# Altium footprint library OpAmps$.PcbLib: 6 footprints
Each footprint in its own frame and in the unit in brackets; x right, y up, seen from the top. Pads: shape width x height; smd on the part's side, far side on the other; paste and mask are expansions set on the pad; w line width, h text height; cw(c..) or ccw(c..) is an arc to the next point about the centre after c.
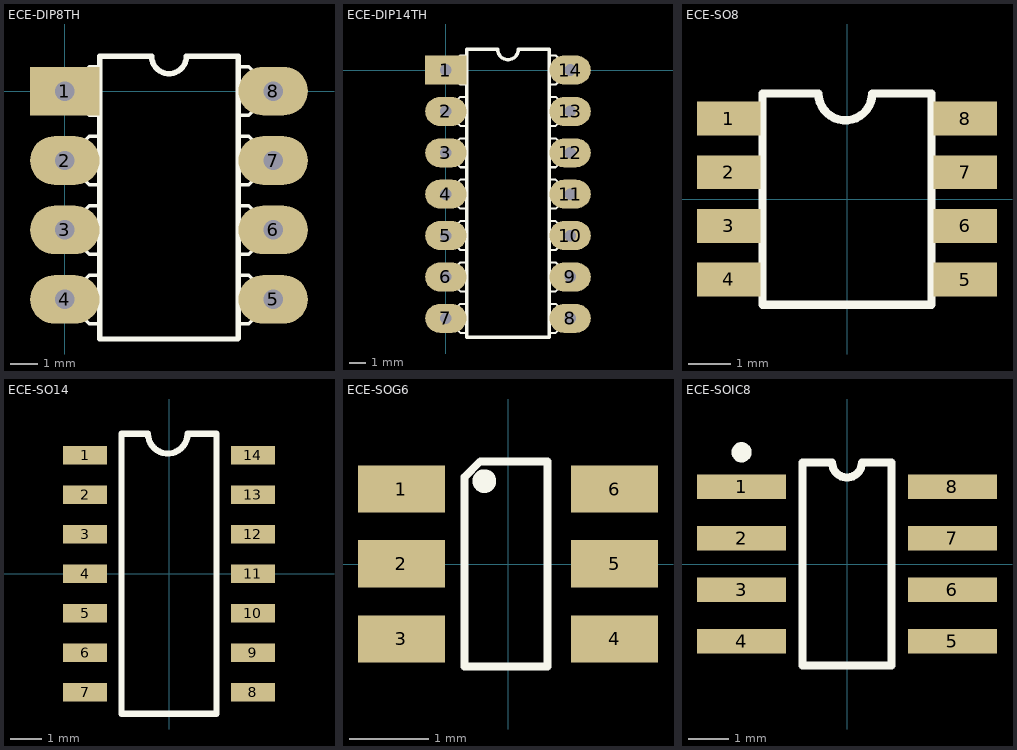
[diagram p0: the footprints below, top view; thin cyan lines are the x and y axes]

## ECE-DIP8TH [mil] "8 pin Dual in line"
pads (8):
  rect 100x70 hole 28: 1(0,0)
  oval 100x70 hole 28: 2(0,-100) 3(0,-200) 4(0,-300) 5(300,-300) 6(300,-200) 7(300,-100) 8(300,0)
Top Overlay:
  lines w5: 50,-335 35,-335 15,-315 0,-315 0,-285 15,-285 35,-265 50,-265 ; 50,-235 35,-235 15,-215 0,-215 0,-185 15,-185 35,-165 50,-165 ; 50,-135 35,-135 15,-115 0,-115 0,-85 15,-85 35,-65 50,-65 ; 50,-35 35,-35 15,-15 0,-15 0,15 15,15 35,35 50,35 ; 250,-335 265,-335 285,-315 300,-315 300,-285 285,-285 265,-265 250,-265 ; 250,-235 265,-235 285,-215 300,-215 300,-185 285,-185 265,-165 250,-165 ; 250,-135 265,-135 285,-115 300,-115 300,-85 285,-85 265,-65 250,-65 ; 250,-35 265,-35 285,-15 300,-15 300,15 285,15 265,35 250,35
  lines w7.87: 50,50 50,-357.09 249.21,-357.09 ; 250,-356.3 250,50
  lines w8: 50,50 125,50 ccw(c150,50) 175,50 250,50

## ECE-DIP14TH [mil] "14 pin Dual in line"
pads (14):
  rect 100x70 hole 28: 1(0,0)
  oval 100x70 hole 28: 2(0,-100) 3(0,-200) 4(0,-300) 5(0,-400) 6(0,-500) 7(0,-600) 8(300,-600) 9(300,-500) 10(300,-400) 11(300,-300) 12(300,-200) 13(300,-100) 14(300,0)
Top Overlay:
  lines w5: 50,-635 35,-635 15,-615 0,-615 0,-585 15,-585 35,-565 50,-565 ; 50,-535 35,-535 15,-515 0,-515 0,-485 15,-485 35,-465 50,-465 ; 50,-435 35,-435 15,-415 0,-415 0,-385 15,-385 35,-365 50,-365 ; 50,-335 35,-335 15,-315 0,-315 0,-285 15,-285 35,-265 50,-265 ; 50,-235 35,-235 15,-215 0,-215 0,-185 15,-185 35,-165 50,-165 ; 50,-135 35,-135 15,-115 0,-115 0,-85 15,-85 35,-65 50,-65 ; 50,-35 35,-35 15,-15 0,-15 0,15 15,15 35,35 50,35 ; 250,-635 265,-635 285,-615 300,-615 300,-585 285,-585 265,-565 250,-565 ; 250,-535 265,-535 285,-515 300,-515 300,-485 285,-485 265,-465 250,-465 ; 250,-435 265,-435 285,-415 300,-415 300,-385 285,-385 265,-365 250,-365 ; 250,-335 265,-335 285,-315 300,-315 300,-285 285,-285 265,-265 250,-265 ; 250,-235 265,-235 285,-215 300,-215 300,-185 285,-185 265,-165 250,-165 ; 250,-135 265,-135 285,-115 300,-115 300,-85 285,-85 265,-65 250,-65 ; 250,-35 265,-35 285,-15 300,-15 300,15 285,15 265,35 250,35
  lines w8: 50,-645.67 250,-645.67 250,50 175,50 cw(c150,50) 125,50 50,50 50,-645.67

## ECE-SO8 [mm] "8-Lead Plastic Small Outline, 1.27mm pitch"
pads (8):
  rect 1.5x0.8 smd: 1(-2.8,1.905) 2(-2.8,0.635) 3(-2.8,-0.635) 4(-2.8,-1.9) 5(2.8,-1.905) 6(2.8,-0.635) 7(2.8,0.635) 8(2.8,1.905)
Top Overlay:
  lines w0.2: -2,-2.5 2,-2.5 2,2.5 0.595,2.5 cw(c-0.04,2.5) -0.675,2.5 -2,2.5 -2,-2.5
3D body "SO8.STEP": height 1.7, standoff 0, extent -3,-2.45 3,2.45

## ECE-SO14 [mm] "SO and SOJ 14 pin"
pads (14):
  rect 1.4x0.6 smd: 1(-2.7,3.81) 2(-2.7,2.54) 3(-2.7,1.27) 4(-2.7,0) 5(-2.7,-1.27) 6(-2.7,-2.54) 7(-2.7,-3.81) 8(2.7,-3.81) 9(2.7,-2.54) 10(2.7,-1.27) 11(2.7,0) 12(2.7,1.27) 13(2.7,2.54) 14(2.7,3.81)
Top Overlay:
  lines w0.2: -1.524,-4.5 -1.524,4.5 -0.675,4.5 ccw(c-0.04,4.5) 0.595,4.5 1.524,4.5 1.524,-4.5 -1.524,-4.5
3D body "SOIC-14.STEP": height 1.75, standoff 0, extent -3,-4.375 3,4.375

## ECE-SOG6 [mm] "6-Lead Plastic Small Outline, 0.95mm pitch"
pads (6):
  rect 1.1x0.6 smd: 1(-1.35,0.95) 2(-1.35,0.005) 3(-1.35,-0.95) 4(1.35,-0.95) 5(1.35,0.005) 6(1.35,0.95)
Top Overlay:
  circle w0.2: c-0.3,1.05 r0.05
  lines w0.1: -0.55,-1.3 -0.55,1.1 -0.35,1.3 -0.2,1.3 0.5,1.3 0.5,-1.3 -0.55,-1.3

## ECE-SOIC8 [mm] "Small Outline; 8 Leads; Body Width 3.9 mm; Pitch 1.27 mm"
height 1.75
pads (8):
  rect 2.2x0.6 smd: 1(-2.6,1.905) 2(-2.6,0.635) 3(-2.6,-0.635) 4(-2.6,-1.905) 5(2.6,-1.905) 6(2.6,-0.635) 7(2.6,0.635) 8(2.6,1.905)
Top Overlay:
  circle w0.25: c-2.6,2.755 r0.125
  lines w0.2: -1.1,-2.5 1.1,-2.5 1.1,2.5 0.367,2.5 cw(c0,2.5) -0.367,2.5 -1.1,2.5 -1.1,-2.5
3D body "SO8.STEP": height 1.7, standoff 0, extent -3,-2.45 3,2.45